# Altium schematic symbol library SCH - RF - FILTER - JOHANSON BP15 4PAD FILTER.SCHLIB: 1 symbol
Pins are listed as number, name and electrical type; pins without a type are passive.

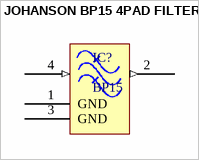
[diagram p0: symbol JOHANSON BP15 4PAD FILTER]

## JOHANSON BP15 4PAD FILTER
designator IC?, comment BP15
pins: 1 GND "Desc1", 2 OUT (out) "Desc1", 3 GND "Desc1", 4 IN (in) "Desc1"